# Altium schematic symbol library SCH - POWER - LINEAR VREG - TI TPS7B4254-Q1DDA.SchLib: 1 symbol
Pins are listed as number, name and electrical type; pins without a type are passive.

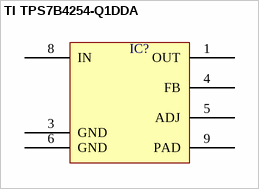
[diagram p0: symbol TI TPS7B4254-Q1DDA]

## TI TPS7B4254-Q1DDA
designator IC?  (value not drawn)
pins: 1 OUT, 3 GND, 4 FB, 5 ADJ, 6 GND, 8 IN, 9 PAD